# Altium footprint library Teensy4.PCBLIB: 1 footprints
Each footprint in its own frame and in the unit in brackets; x right, y up, seen from the top. Pads: shape width x height; smd on the part's side, far side on the other; paste and mask are expansions set on the pad; w line width, h text height; cw(c..) or ccw(c..) is an arc to the next point about the centre after c.
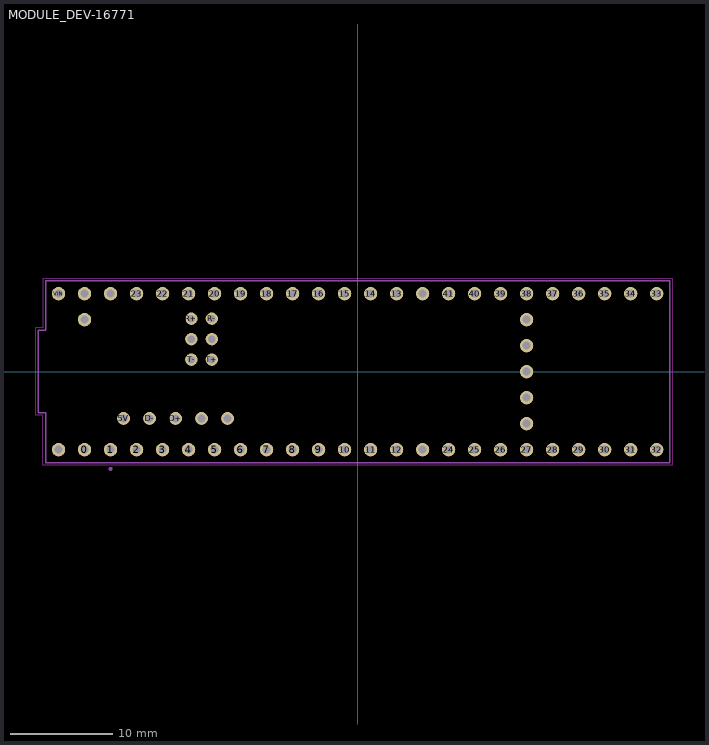
[diagram p0: the footprint, top view; thin cyan lines are the x and y axes]

## MODULE_DEV-16771 [mil]
pads (65):
  round 51.5 hole 31.5: 0(-1050,-300) 1(-950,-300) 2(-850,-300) 3(-750,-300) 3.3V_1(250,-300) 3.3V_2(-950,300) 3.3V_3(650,-100) 4(-650,-300) 5(-550,-300) 6(-450,-300) 7(-350,-300) 8(-250,-300) 9(-150,-300) 10(-50,-300) 11(50,-300) 12(150,-300) 13(150,300) 14(50,300) 15(-50,300) 16(-150,300) 17(-250,300) 18(-350,300) 19(-450,300) 20(-550,300) 21(-650,300) 22(-750,300) 23(-850,300) 24(350,-300) 25(450,-300) 26(550,-300) 27(650,-300) 28(750,-300) 29(850,-300) 30(950,-300) 31(1050,-300) 32(1150,-300) 33(1150,300) 34(1050,300) 35(950,300) 36(850,300) 37(750,300) 38(650,300) 39(550,300) 40(450,300) 41(350,300) GND1(-1150,-300) GND2(250,300) GND3(-1050,300) GND4(650,0) ON/OFF(650,200) PROGRAM(650,100) VBAT(650,-200) VIN(-1150,300) VUSB(-1050,200)
  round 49.53 hole 29.53: 5V(-900,-179.92) D+(-700,-179.92) D-(-800,-179.92) USB_GND1(-600,-179.92) USB_GND2(-500,-179.92)
  round 47.56 hole 27.56: GND5(-560.63,124.8) LED(-639.37,124.8) R+(-639.37,203.54) R-(-560.63,203.54) T+(-560.63,46.06) T-(-639.37,46.06)
Top keep-out:
  lines w1.97: -1237.4,-168.5 -1209.84,-168.5 -1209.84,-359.84 1209.84,-359.84 1209.84,359.84 -1209.84,359.84 -1209.84,168.5 -1237.4,168.5 -1237.4,-168.5
tDocu:
  circle w7.87: c-950,-374.02 r3.94
  lines w5: -1227.56,-158.66 -1200,-158.66 -1200,-350 1200,-350 1200,350 -1200,350 -1200,158.66 -1227.56,158.66 -1227.56,-158.66
  text "Teensy 4.1" at -9.84,13.39 h77.5
tPlace:
  circle w7.87: c-950,-374.02 r3.94
  lines w5: -1227.56,-158.66 -1200,-158.66 -1200,-350 1200,-350 1200,350 -1200,350 -1200,158.66 -1227.56,158.66 -1227.56,-158.66